# EAGLE library part CON_HEADER_1X08 (library dp_devices)
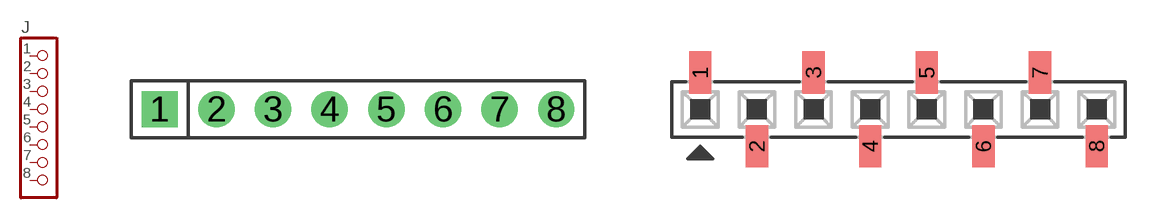
[diagram p9: symbol with the pads of M1X8; footprints M1X8, M1X8_SMD]

Designator prefix J

## CON_HEADER_1X08-PTH  [M1X8]
1  1  pas
2  2  pas
3  3  pas
4  4  pas
5  5  pas
6  6  pas
7  7  pas
8  8  pas

## CON_HEADER_1X08-SMD  [M1X8_SMD]
Pads as for M1X8

## Footprint M1X8 (pad centres in mm)
drill 1.02 pad 1.632 square: 1 -8.89,0
drill 1.02 pad 1.632: 2 -6.35,0; 3 -3.81,0; 4 -1.27,0; 5 1.27,0; 6 3.81,0; 7 6.35,0; 8 8.89,0

## Footprint M1X8_SMD (pad centres in mm)
1x08 0.1" header SMD, 1.00 x 1.90 pad size Mfr no: NPTC081KFXC-RC NPTC081KFXC-RC <http://www.digikey.com/product-detail/en/NPTC081KFXC-RC/S5600-ND/776058>
smd 1 x 1.9: 1 -8.89,1.65; 2 -6.35,-1.65; 3 -3.81,1.65; 4 -1.27,-1.65; 5 1.27,1.65; 6 3.81,-1.65; 7 6.35,1.65; 8 8.89,-1.65